# EAGLE library part MA18-2 (library con-lstb)
PIN HEADER
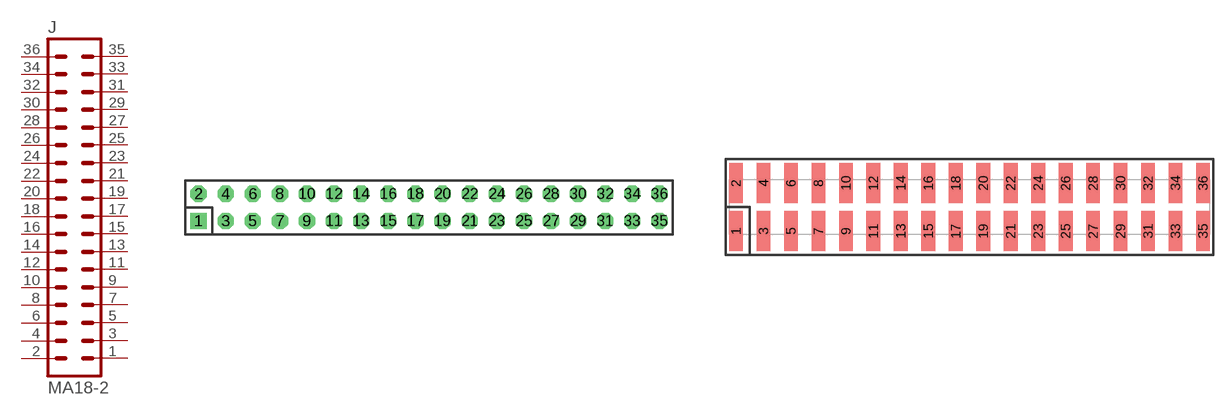
[diagram p28: symbol with the pads of MA18-2; footprints MA18-2, SMD-MA18-2]

Designator prefix J

## MA18-2  [MA18-2]
1  1  pas
2  2  pas
3  3  pas
4  4  pas
5  5  pas
6  6  pas
7  7  pas
8  8  pas
9  9  pas
10  10  pas
11  11  pas
12  12  pas
13  13  pas
14  14  pas
15  15  pas
16  16  pas
17  17  pas
18  18  pas
19  19  pas
20  20  pas
21  21  pas
22  22  pas
23  23  pas
24  24  pas
25  25  pas
26  26  pas
27  27  pas
28  28  pas
29  29  pas
30  30  pas
31  31  pas
32  32  pas
33  33  pas
34  34  pas
35  35  pas
36  36  pas

## MA18-2SMD  [SMD-MA18-2]
Pads as for MA18-2

## Footprint MA18-2 (pad centres in mm)
PIN HEADER
drill 1.016 square: 1 -21.59,-1.27
drill 1.016 octagon: 2 -21.59,1.27; 3 -19.05,-1.27; 4 -19.05,1.27; 5 -16.51,-1.27; 6 -16.51,1.27; 7 -13.97,-1.27; 8 -13.97,1.27; 9 -11.43,-1.27; 10 -11.43,1.27; 11 -8.89,-1.27; 12 -8.89,1.27; 13 -6.35,-1.27; 14 -6.35,1.27; 15 -3.81,-1.27; 16 -3.81,1.27; 17 -1.27,-1.27; 18 -1.27,1.27; 19 1.27,-1.27; 20 1.27,1.27; 21 3.81,-1.27; 22 3.81,1.27; 23 6.35,-1.27; 24 6.35,1.27; 25 8.89,-1.27; 26 8.89,1.27; 27 11.43,-1.27; 28 11.43,1.27; 29 13.97,-1.27; 30 13.97,1.27; 31 16.51,-1.27; 32 16.51,1.27; 33 19.05,-1.27; 34 19.05,1.27; 35 21.59,-1.27; 36 21.59,1.27

## Footprint SMD-MA18-2 (pad centres in mm)
SMD Dual Row, Vertical - 0.1" Sullins, G XCXXDABN-M30 Series
smd 1.27 x 3.68: 1 -21.59,-2.223; 2 -21.59,2.223; 3 -19.05,-2.223; 4 -19.05,2.223; 5 -16.51,-2.223; 6 -16.51,2.223; 7 -13.97,-2.223; 8 -13.97,2.223; 9 -11.43,-2.223; 10 -11.43,2.223; 11 -8.89,-2.223; 12 -8.89,2.223; 13 -6.35,-2.223; 14 -6.35,2.223; 15 -3.81,-2.223; 16 -3.81,2.223; 17 -1.27,-2.223; 18 -1.27,2.223; 19 1.27,-2.223; 20 1.27,2.223; 21 3.81,-2.223; 22 3.81,2.223; 23 6.35,-2.223; 24 6.35,2.223; 25 8.89,-2.223; 26 8.89,2.223; 27 11.43,-2.223; 28 11.43,2.223; 29 13.97,-2.223; 30 13.97,2.223; 31 16.51,-2.223; 32 16.51,2.223; 33 19.05,-2.223; 34 19.05,2.223; 35 21.59,-2.223; 36 21.59,2.223